# Altium integrated library FPGA Interface Board.IntLib: 31 symbols
Pins are listed as number, name and electrical type; pins without a type are passive.

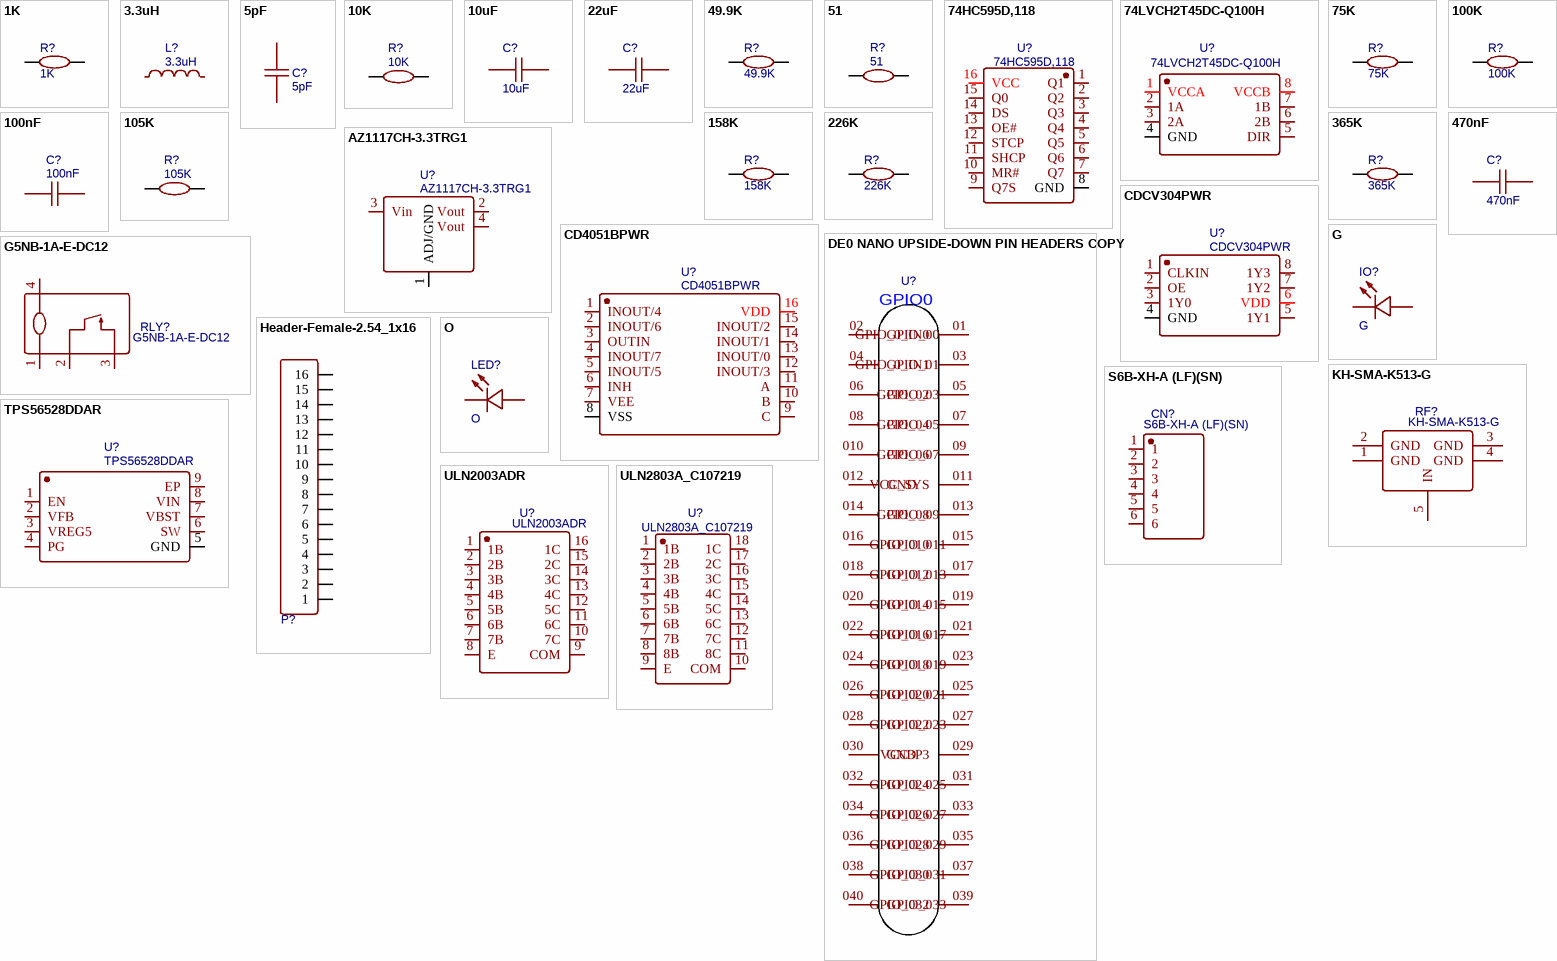
[diagram p0: symbols 1K to ULN2803A_C107219]

## 1K
designator R?
BOM_Manufacturer Part: RC0603FR-071KL; BOM_Manufacturer: YAGEO; nameAlias: Resistance (Ohms); BOM_Supplier: LCSC; BOM_Supplier Part: C22548; spicePre: R; spiceSymbolName: RC0603FR-071KL
footprint R0603
pins: 1, 2

## 3.3uH
designator L?
BOM_Manufacturer: SXN; BOM_Manufacturer Part: SMMS1040-3R3M; nameAlias: Inductance; Contributor: LCSC; BOM_Supplier: LCSC; BOM_Supplier Part: C149592; spicePre: L; spiceSymbolName: SMMS1040-3R3M
footprint IND-SMD_L11.5-W10.0_SMMS1040
pins: 1, 2

## 5pF
designator C?
BOM_Manufacturer: Samsung Electro-Mechanics; BOM_Manufacturer Part: CL10C050CB8NNNC; nameAlias: Capacitance; Contributor: LCSC; SMT Type: Extend; BOM_Supplier: LCSC; BOM_Supplier Part: C93045; BOM_LCSC Assembly: Yes; spicePre: C; spiceSymbolName: CL10C050CB8NNNC
footprint C0603
pins: 1, 2

## 10K
designator R?
BOM_Manufacturer: YAGEO; BOM_Manufacturer Part: RC0603FR-0710KL; nameAlias: Resistance (Ohms); BOM_Supplier: LCSC; BOM_Supplier Part: C98220; spicePre: R; spiceSymbolName: RC0603FR-0710KL
footprint R0603
pins: 1, 2

## 10uF
designator C?
BOM_Manufacturer: SAMSUNG; BOM_Manufacturer Part: CL21B106KOQNNNE; nameAlias: Capacitance; BOM_Supplier: LCSC; BOM_Supplier Part: C95841; spicePre: C; spiceSymbolName: CL21B106KOQNNNE
footprint C0805
pins: 1, 2

## 22uF
designator C?
BOM_Manufacturer: SAMSUNG; BOM_Manufacturer Part: CL10A226MP8NUNE; nameAlias: Capacitance; SMT Type: Extend; BOM_Supplier: LCSC; BOM_Supplier Part: C86295; BOM_LCSC Assembly: Yes; spicePre: C; spiceSymbolName: CL10A226MP8NUNE
footprint C0603
pins: 1, 2

## 49.9K
designator R?
BOM_Manufacturer: UniOhm; BOM_Manufacturer Part: 0603WAF4992T5E; nameAlias: Resistance (Ohms); SMT Type: Basic; BOM_Supplier: LCSC; BOM_LCSC Assembly: Yes; BOM_Supplier Part: C23184; spicePre: R; spiceSymbolName: 0603WAF4992T5E
footprint R0603
pins: 1, 2

## 51
designator R?
BOM_Manufacturer: UniOhm; BOM_Manufacturer Part: 0603WAF510JT5E; nameAlias: Resistance (Ohms); SMT Type: Basic; BOM_Supplier: LCSC; BOM_LCSC Assembly: Yes; BOM_Supplier Part: C23197; spicePre: R; spiceSymbolName: 0603WAF510JT5E
footprint R0603
pins: 1, 2

## 74HC595D,118
designator U?
BOM_Manufacturer: Nexperia; SMT Type: Basic; spicePre: X; BOM_Supplier: LCSC; BOM_Manufacturer Part: 74HC595D,118; BOM_LCSC Assembly: Yes; image: //image.lceda.cn/szlcsc/C5947.jpg; BOM_Supplier Part: C5947; spiceSymbolName: 74HC595D,118
footprint SOIC-16_L9.9-W3.9-P1.27-LS6.0-BL
pins: 1 Q1, 2 Q2, 3 Q3, 4 Q4, 5 Q5, 6 Q6, 7 Q7, 8 GND, 9 Q7S, 10 MR#, 11 SHCP, 12 STCP, 13 OE#, 14 DS, 15 Q0, 16 VCC

## 74LVCH2T45DC-Q100H
designator U?
BOM_Manufacturer: Nexperia; Contributor: LCSC; SMT Type: Extend; BOM_Supplier: LCSC; BOM_Manufacturer Part: 74LVCH2T45DC-Q100H; BOM_Supplier Part: C116382; BOM_LCSC Assembly: Yes; spicePre: U; spiceSymbolName: 74LVCH2T45DC-Q100H
footprint VSSOP-8_L2.4-W2.1-P0.50-LS3.2-BR
pins: 1 VCCA, 2 1A, 3 2A, 4 GND, 5 DIR, 6 2B, 7 1B, 8 VCCB

## 75K
designator R?
BOM_Manufacturer: UniOhm; BOM_Manufacturer Part: 0603WAF7502T5E; nameAlias: Resistance (Ohms); SMT Type: Basic; BOM_Supplier: LCSC; BOM_LCSC Assembly: Yes; BOM_Supplier Part: C23242; spicePre: R; spiceSymbolName: 0603WAF7502T5E
footprint R0603
pins: 1, 2

## 100K
designator R?
BOM_Manufacturer: UniOhm; BOM_Manufacturer Part: 0603WAF1003T5E; nameAlias: Resistance (Ohms); SMT Type: Basic; BOM_Supplier: LCSC; BOM_LCSC Assembly: Yes; BOM_Supplier Part: C25803; spicePre: R; spiceSymbolName: 0603WAF1003T5E
footprint R0603
pins: 1, 2

## 100nF
designator C?
BOM_Manufacturer: YAGEO; BOM_Manufacturer Part: CC0603KRX7R9BB104; nameAlias: Capacitance; SMT Type: Basic; BOM_Supplier: LCSC; BOM_LCSC Assembly: Yes; BOM_Supplier Part: C14663; spicePre: C; spiceSymbolName: CC0603KRX7R9BB104
footprint C0603
pins: 1, 2

## 105K
designator R?
BOM_Manufacturer: UniOhm; BOM_Manufacturer Part: 0603WAF1053T5E; nameAlias: Resistance (Ohms); SMT Type: Extend; BOM_Supplier: LCSC; BOM_Supplier Part: C16840; BOM_LCSC Assembly: Yes; spicePre: R; spiceSymbolName: 0603WAF1053T5E
footprint R0603
pins: 1, 2

## 158K
designator R?
BOM_Manufacturer: UniOhm; BOM_Manufacturer Part: 0603WAF1583T5E; nameAlias: Resistance (Ohms); SMT Type: Extend; BOM_Supplier: LCSC; BOM_Supplier Part: C22883; BOM_LCSC Assembly: Yes; spicePre: R; spiceSymbolName: 0603WAF1583T5E
footprint R0603
pins: 1, 2

## 226K
designator R?
BOM_Manufacturer: UniOhm; BOM_Manufacturer Part: 0603WAF2263T5E; nameAlias: Resistance (Ohms); SMT Type: Extend; BOM_Supplier: LCSC; BOM_Supplier Part: C33619; BOM_LCSC Assembly: Yes; spicePre: R; spiceSymbolName: 0603WAF2263T5E
footprint R0603
pins: 1, 2

## 365K
designator R?
BOM_Manufacturer: UniOhm; BOM_Manufacturer Part: 0603WAF3653T5E; nameAlias: Resistance (Ohms); SMT Type: Extend; BOM_Supplier: LCSC; BOM_Supplier Part: C23031; BOM_LCSC Assembly: Yes; spicePre: R; spiceSymbolName: 0603WAF3653T5E
footprint R0603
pins: 1, 2

## 470nF
designator C?
BOM_Manufacturer: Samsung Electro-Mechanics; BOM_Manufacturer Part: CL10F474ZO8NNNC; nameAlias: Capacitance; Contributor: LCSC; BOM_Supplier: LCSC; BOM_Supplier Part: C318652; spicePre: C; spiceSymbolName: CL10F474ZO8NNNC
footprint C0603
pins: 1, 2

## AZ1117CH-3.3TRG1
designator U?
BOM_Manufacturer: DIODES; SMT Type: Extend; BOM_Supplier: LCSC; BOM_Manufacturer Part: AZ1117CH-3.3TRG1; BOM_Supplier Part: C92102; BOM_LCSC Assembly: Yes; spicePre: U; spiceSymbolName: AZ1117CH-3.3TRG1
footprint SOT-223-3_L6.5-W3.4-P2.30-LS7.0-BR
pins: 1 ADJ/GND, 2 Vout, 3 Vin, 4 Vout

## CD4051BPWR
designator U?
BOM_Manufacturer: TI; SMT Type: Extend; BOM_Supplier: LCSC; BOM_Manufacturer Part: CD4051BPWR; BOM_Supplier Part: C54587; BOM_LCSC Assembly: Yes; spicePre: U; spiceSymbolName: CD4051BPWR
footprint TSSOP-16_L5.0-W4.4-P0.65-LS6.4-BL
pins: 1 INOUT/4, 2 INOUT/6, 3 OUTIN, 4 INOUT/7, 5 INOUT/5, 6 INH, 7 VEE, 8 VSS, 9 C, 10 B, 11 A, 12 INOUT/3, 13 INOUT/0, 14 INOUT/1, 15 INOUT/2, 16 VDD

## CDCV304PWR
designator U?
BOM_Manufacturer: TI; SMT Type: Extend; BOM_Supplier: LCSC; BOM_Manufacturer Part: CDCV304PWR; BOM_Supplier Part: C105237; BOM_LCSC Assembly: Yes; spicePre: U; spiceSymbolName: CDCV304PWR
footprint TSSOP-8_L4.4-W3.0-P0.65-LS6.4-BL
pins: 1 CLKIN, 2 OE, 3 1Y0, 4 GND, 5 1Y1, 6 VDD, 7 1Y2, 8 1Y3

## DE0 NANO UPSIDE-DOWN PIN HEADERS COPY
designator U?  (value not drawn)
subpart_no: 1; Contributor: cemasoniv; spicePre: U; spiceSymbolName: DE0 NANO UPSIDE-DOWN PIN HEADERS COPY
footprint DE0-NANO UPSIDE DOWN
pins: 01 GPIO_0_IN0, 02 GPIO_00, 03 GPIO_0_IN1, 04 GPIO_01, 05 GPIO_02, 06 GPIO_03, 07 GPIO_04, 08 GPIO_05, 09 GPIO_06, 010 GPIO_07, 011 VCC_SYS, 012 GND, 013 GPIO_08, 014 GPIO_09, 015 GPIO_010, 016 GPIO_011, 017 GPIO_012, 018 GPIO_013, 019 GPIO_014, 020 GPIO_015, 021 GPIO_016, 022 GPIO_017, 023 GPIO_018, 024 GPIO_019, 025 GPIO_020, 026 GPIO_021, 027 GPIO_022, 028 GPIO_023, 029 VCC3P3, 030 GND, 031 GPIO_024, 032 GPIO_025, 033 GPIO_026, 034 GPIO_027, 035 GPIO_028, 036 GPIO_029, 037 GPIO_030, 038 GPIO_031, 039 GPIO_032, 040 GPIO_033
text: GPIO0

## G
designator IO?
BOM_Manufacturer: Orient; BOM_Manufacturer Part: ORH-G36G; Contributor: LCSC; SMT Type: Extend; BOM_Supplier: LCSC; BOM_Supplier Part: C205443; BOM_LCSC Assembly: Yes; spicePre: L; spiceSymbolName: ORH-G36G
footprint LED0603-R-RD
pins: 1 A, 2 K

## G5NB-1A-E-DC12
designator RLY?
BOM_Manufacturer: Omron Electronics; Contributor: LCSC; BOM_Supplier: LCSC; BOM_Supplier Part: C225714; BOM_Manufacturer Part: G5NB-1A-E-DC12; spicePre: R; spiceSymbolName: G5NB-1A-E-DC12
footprint RELAY-TH_G5NB-1A-E-DCXX
pins: 1, 2, 3, 4

## Header-Female-2.54_1x16
designator P?  (value not drawn)
BOM_Manufacturer: BOOMELE; BOM_Manufacturer Part: Female header1*16P pitch 2.54mm; BOM_Supplier: LCSC; image: //image.lceda.cn/szlcsc/C66987.jpg; BOM_Supplier Part: C66987; spicePre: P; spiceSymbolName: Header-Female-2.54_1x16
footprint HDR-TH_16P-P2.54-V
pins: 1, 2, 3, 4, 5, 6, 7, 8, 9, 10, 11, 12, 13, 14, 15, 16

## KH-SMA-K513-G
designator RF?
BOM_Manufacturer: Shenzhen Kinghelm Elec; Contributor: LCSC; BOM_Supplier: LCSC; BOM_Supplier Part: C411575; BOM_Manufacturer Part: KH-SMA-K513-G; spicePre: R; spiceSymbolName: KH-SMA-K513-G
footprint ANT-TH_KH-SMA-K513-G
pins: 1 GND, 2 GND, 3 GND, 4 GND, 5 IN

## O
designator LED?
BOM_Manufacturer: Orient; BOM_Manufacturer Part: ORH-R36A(0.6T); Contributor: LCSC; SMT Type: Extend; BOM_Supplier: LCSC; BOM_Supplier Part: C205445; BOM_LCSC Assembly: Yes; spicePre: L; spiceSymbolName: ORH-R36A(0.6T)
footprint LED0603-R-RD
pins: 1 A, 2 K

## S6B-XH-A (LF)(SN)
designator CN?
BOM_Manufacturer: JST Sales America; Contributor: LCSC; BOM_Supplier: LCSC; BOM_Supplier Part: C157919; BOM_Manufacturer Part: -; spicePre: C; spiceSymbolName: S6B-XH-A (LF)(SN)
footprint CONN-TH_S6B-XH-A (LF)(SN)
pins: 1, 2, 3, 4, 5, 6

## TPS56528DDAR
designator U?
BOM_Manufacturer: Texas Instruments; Contributor: LCSC; SMT Type: Extend; BOM_Supplier: LCSC; BOM_Supplier Part: C138716; BOM_Manufacturer Part: TPS56528DDAR; BOM_LCSC Assembly: Yes; spicePre: U; spiceSymbolName: TPS56528DDAR
footprint SOIC-8_L4.9-W3.9-P1.27-LS6.0-BL-EP
pins: 1 EN, 2 VFB, 3 VREG5, 4 PG, 5 GND, 6 SW, 7 VBST, 8 VIN, 9 EP

## ULN2003ADR
designator U?
BOM_Manufacturer: TI; SMT Type: Basic; spicePre: X; BOM_Supplier: LCSC; BOM_Manufacturer Part: ULN2003ADR; image: //image.lceda.cn/szlcsc/C7512.jpg; BOM_Supplier Part: C7512; BOM_LCSC Assembly: Yes; spiceSymbolName: ULN2003ADR
footprint SOIC-16_L9.9-W3.9-P1.27-LS6.0-BL
pins: 1 1B, 2 2B, 3 3B, 4 4B, 5 5B, 6 6B, 7 7B, 8 E, 9 COM, 10 7C, 11 6C, 12 5C, 13 4C, 14 3C, 15 2C, 16 1C

## ULN2803A_C107219
designator U?
BOM_Manufacturer: MIXIC; SMT Type: Extend; BOM_Supplier: LCSC; BOM_Manufacturer Part: ULN2803A; BOM_Supplier Part: C107219; BOM_LCSC Assembly: Yes; spicePre: U; spiceSymbolName: ULN2803A_C107219
footprint SOP-18_L11.4-W7.6-P1.27-LS10.6-BL
pins: 1 1B, 2 2B, 3 3B, 4 4B, 5 5B, 6 6B, 7 7B, 8 8B, 9 E, 10 COM, 11 8C, 12 7C, 13 6C, 14 5C, 15 4C, 16 3C, 17 2C, 18 1C